# Altium schematic symbol library S7CAS_Lib2017.SchLib: 108 symbols (part 2 of 2)
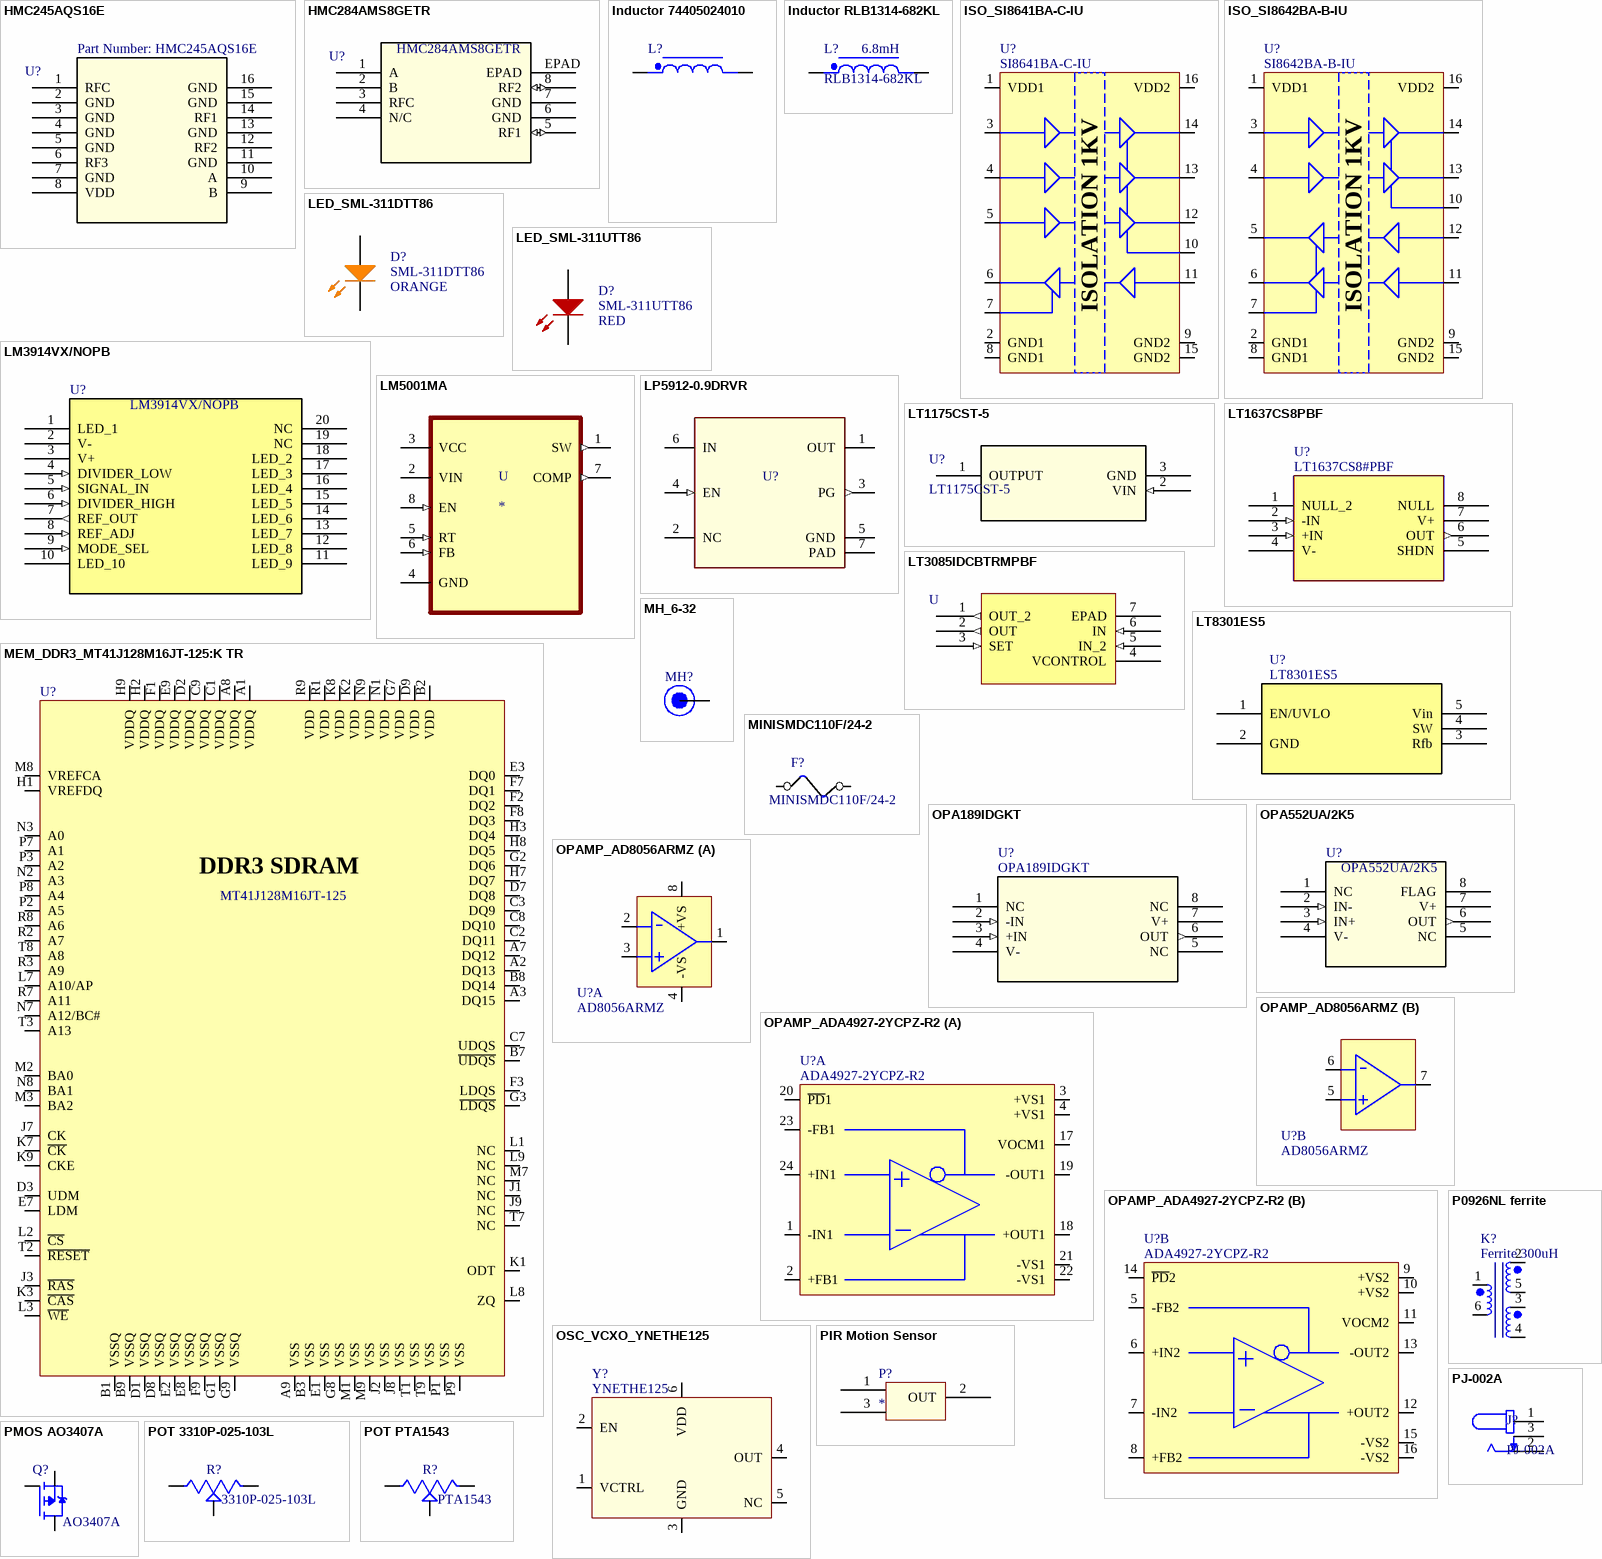
[diagram p6: symbols HMC245AQS16E to POT PTA1543]

## HMC284AMS8GETR
designator U?
RF Switch IC Cellular, ISM, PCS SPDT 3.5GHz 50Ohm 8-MSOPG; Built_By: EMA_UL_Team; Vendor: Analog Devices Inc; SourceLibrary: Analog_2019-03-08; Copyright: Copyright (C) 2018 Accelerated Designs. All rights reserved; Mfg Part Number: HMC284AMS8GETR; RefDes: RefDes; Type: DEV; Value: RF Switch; HelpURL: https://www.analog.com/media/en/technical-documentation/data-sheets/hmc284A.pdf; Supplier Part Number: 1127-1317-2-ND
footprint MSOP8G_8_ADI-M
pins: 1 A, 2 B, 3 RFC, 4 N/C, 5 RF1 (io), 6 GND, 7 GND, 8 RF2 (io), EPAD

## Inductor 74405024010
designator L?
1µH Semi-Shielded Wirewound Inductor 2.35A 58mOhm Max Nonstandard; Published: 8-Jun-2000; LatestRevisionDate: 17-Jul-2002; LatestRevisionNote: Re-released for DXP Platform.; PackageReference: TRF_4; Publisher: Altium Limited; PackageDescription: Transformer; 4 Leads
footprint Fixed ind 1uH (Inductor 1uH non standard)
pins: 1, 2

## Inductor RLB1314-682KL
designator L?, comment RLB1314-682KL  value 6.8mH
6.8mH Unshielded Wirewound Inductor 120mA 9.4Ohm Max Radial, Vertical Cylinder; Published: 8-Jun-2000; LatestRevisionDate: 17-Jul-2002; LatestRevisionNote: Re-released for DXP Platform.; PackageReference: TRF_4; Publisher: Altium Limited; PackageDescription: Transformer; 4 Leads; HelpURL: https://www.bourns.com/docs/Product-Datasheets/rlb.pdf
footprint FIXED IND 6.8MH (2-pin fixed ind)
pins: 1, 2

## ISO_SI8641BA-C-IU
designator U?, comment SI8641BA-C-IU
ISO - DIGITAL ISOLATOR 1KV 4CH 3:1 GEN PURP -  SOP-16; Voltage: 2.5 V ~ 5.5 V; Mfg: Silicon Labs; Current: *; Power: *; Mfg Part Number: SI8641BA-C-IU; HelpURL: http://www.silabs.com/Support%20Documents/TechnicalDocs/si864x-datasheet.pdf; CreatedBy: Jonathan Bouchard; Temperature: -40°C ~ 125°C; Value: *; Precision: *; Package: SOP-16; Supplier 1: Digikey; Supplier Part Number 1: SI8641BA-C-IU-ND
footprint ISO_SI8642BA-B-IU
pins: 1 VDD1 (power), 2 GND1, 3 A1, 4 A2, 5 A3, 6 A4, 7 EN1, 8 GND1, 9 GND2, 10 EN2, 11 B4, 12 B3, 13 B2, 14 B1, 15 GND2, 16 VDD2 (power)
text: ISOLATION 1KV

## ISO_SI8642BA-B-IU
designator U?, comment SI8642BA-B-IU
ISO - DIGITAL ISOLATOR 1KV 4CH 2:2 GEN PURP -  SOP-16; Voltage: 2.5 V ~ 5.5 V; Mfg: Silicon Labs; Current: *; Power: *; Mfg Part Number: SI8642BA-B-IU; HelpURL: http://www.silabs.com/Support%20Documents/TechnicalDocs/si864x-datasheet.pdf; CreatedBy: Jonathan Bouchard; Temperature: -40°C ~ 125°C; Value: *; Precision: *; Package: SOP-16; Supplier 1: Digikey; Supplier Part Number 1: 336-2091-5-ND
footprint ISO_SI8642BA-B-IU
pins: 1 VDD1 (power), 2 GND1, 3 A1, 4 A2, 5 A3, 6 A4, 7 EN1, 8 GND1, 9 GND2, 10 EN2, 11 B4, 12 B3, 13 B2, 14 B1, 15 GND2, 16 VDD2 (power)
text: ISOLATION 1KV

## LED_SML-311DTT86
designator D?, comment SML-311DTT86  value ORANGE
LED - 611nM ORANGE 2mA - 0603; Voltage: 1.8V; Mfg: ROHM Semiconductor; Power: 44mW; Current: 2mA; HelpURL: http://media.digikey.com/pdf/Data%20Sheets/Rohm%20PDFs/SML-311%20Series.pdf; CreatedBy: Jonathan Bouchard; Temperature: -40°C to 85°C; Package: 0603; Precision: *; Mfg Part Number: SML-311DTT86; Supplier 1: Digikey; Supplier Part Number 1: 511-1303-1-ND
footprint LED_0603 (Light Emitting Diode - Package 1608)
pins: A, K

## LED_SML-311UTT86
designator D?, comment SML-311UTT86  value RED
LED - 620nM RED 2mA - 0603; Voltage: 1.8V; Mfg: ROHM Semiconductor; Power: 44mW; Current: 2mA; HelpURL: http://media.digikey.com/pdf/Data%20Sheets/Rohm%20PDFs/SML-311%20Series.pdf; CreatedBy: Jonathan Bouchard; Temperature: -30°C to 85°C; Package: 0603; Precision: *; Mfg Part Number: SML-311UTT86; Supplier 1: Digikey; Supplier Part Number 1: 511-1304-1-ND
footprint LED_0603 (Light Emitting Diode - Package 1608)
pins: A, K

## LM3914VX/NOPB
designator U?
LED, LCD, Vacuum Fluorescent (VF) Driver 20-PLCC (9x9); Vendor: Texas Instruments; Built_By: EMA_UL_Team; SourceLibrary: National_2014-06-20; Value: LED Driver; Manufacturer_Part_Number: LM3914VX/NOPB; Copyright: Copyright (C) 2018 Accelerated Designs. All rights reserved; RefDes: RefDes; Type: DEV; HelpURL: https://www.ti.com/lit/ds/symlink/lm3914.pdf; Supplier Part Number: LM3914VX/NOPBTR-ND; Mfg Part Number: LM3914VX/NOPB
footprint V20A_TEX
pins: 1 LED_1, 2 V- (power), 3 V+ (power), 4 DIVIDER_LOW (in), 5 SIGNAL_IN (in), 6 DIVIDER_HIGH (in), 7 REF_OUT (out), 8 REF_ADJ (in), 9 MODE_SEL (in), 10 LED_10, 11 LED_9, 12 LED_8, 13 LED_7, 14 LED_6, 15 LED_5, 16 LED_4, 17 LED_3, 18 LED_2, 19 NC, 20 NC

## LM5001MA
designator U
3.1-75V Wide Vin, 1A Current Mode Non-Synchronous Switch Mode Regulator 8-SOIC -40 to 125; MP: LM5001MA/NOPB; MF: Texas Instruments; Package: SOIC-8 Texas Instruments; SnapEDA_Link: https://www.snapeda.com/parts/LM5001MA/NOPB/Texas%20Instruments/view-part/29520/?ref=snap; Value: *; Availability: Unavailable; Price: None; HelpURL: https://www.ti.com/lit/ds/symlink/lm5001.pdf?&ts=1589560132089
footprint SOIC127P600X175-8N
pins: 1 SW (out), 2 VIN (power), 3 VCC (power), 4 GND, 5 RT (in), 6 FB (in), 7 COMP (out), 8 EN (in)

## LP5912-0.9DRVR
designator U?
Linear Voltage Regulator IC 1 Output 500mA 6-WSON (2x2); PartNumber: LP5912-1.1DRVR; Manufacturer: Texas Instruments; Mfg Part Number: 296-53182-2-ND; RefDes: RefDes; Type: DEV; Value: Value; Copyright: Copyright (C) 2018 Accelerated Designs. All rights reserved; HelpURL: https://www.ti.com/lit/ds/symlink/lp5912.pdf?&ts=1589554329710
footprint LDO_6-WSON LP5912
pins: 1 OUT (power), 2 NC, 3 PG (out), 4 EN (in), 5 GND (power), 6 IN (power), 7 PAD (power)

## LT1175CST-5
designator U?
Linear Voltage Regulator IC 1 Output 500mA SOT-223-3; Mfg Part Number: LT1175CST-5#PBF; Vendor: Linear Technology; Manufacturer_Part_Number: LT1175CST-5; Copyright: Copyright (C) 2018 Accelerated Designs. All rights reserved; RefDes: RefDes; Type: DEV; Value: Linear Voltage Reg; Supplier Part Number: LT1175CST-5#PBF-ND
footprint SOT-223_ST-M
pins: 1 OUTPUT (power), 2 VIN (in), 3 GND (power)

## LT1637CS8PBF
designator U?, comment LT1637CS8#PBF
General Purpose Amplifier 1 Circuit Rail-to-Rail 8-SO; MF: Linear Technology; SnapEDA_Link: https://www.snapeda.com/parts/LT1637CS8%23PBF/Analog%20Devices/view-part/600819/?ref=snap; Value: *; MP: LT1637CS8#PBF; Package: SO-8 Linear Technology; HelpURL: https://www.analog.com/media/en/technical-documentation/data-sheets/1637fd.pdf
footprint SO-8_S
pins: 1 NULL_2, 2 -IN (in), 3 +IN (in), 4 V- (power), 5 SHDN, 6 OUT (out), 7 V+ (power), 8 NULL

## LT3085IDCBTRMPBF
designator U, comment LT3085IDCB#TRMPBF  (value not drawn)
Linear Voltage Regulator IC 1 Output 500mA 6-DFN _2x3_; MF: Linear Technology; SnapEDA_Link: https://www.snapeda.com/parts/LT3085IDCB%23TRMPBF/Analog%20Devices/view-part/604120/?ref=snap; Digi-Key_Part_Number: LT3085IDCB#TRMPBFCT-ND; Value: Linear Voltage Reg; Digi-Key_Purchase_URL: https://www.digikey.com/product-detail/en/linear-technology-analog-devices/LT3085IDCB-TRMPBF/LT3085IDCB-TRMPBFCT-ND/4729336?utm_source=snapeda&utm_medium=aggregator&utm_campaign=symbol; MP: LT3085IDCB#TRMPBF; Package: DFN-6 Linear Technology; HelpURL: https://www.analog.com/media/en/technical-documentation/data-sheets/3085fb.pdf; Supplier Part Number: LT3085IDCB#TRMPBFTR-ND; Mfg Part Number: LT3085IDCB#TRMPBF
footprint DFN-6_DCB
pins: 1 OUT_2 (out), 2 OUT (out), 3 SET (in), 4 VCONTROL, 5 IN_2 (in), 6 IN (in), 7 EPAD

## LT8301ES5
designator U?
Flyback Switching Regulator IC Positive or Negative, Isolation Capable 1 Output 1.2A SOT-23-5 Thin, TSOT-23-5; Vendor: Linear Technology; Mfg Part Number: LT8301ES5; Copyright: Copyright (C) 2018 Accelerated Designs. All rights reserved; RefDes: RefDes; Type: Type; Value: Flyback Switching Reg; HelpURL: https://www.analog.com/media/en/technical-documentation/data-sheets/LT8301.pdf; Supplier Part Number: LT8301ES5#TRMPBFTR-ND
footprint TSOT-23_S5
pins: 1 EN/UVLO, 2 GND, 3 Rfb, 4 SW, 5 Vin

## MEM_DDR3_MT41J128M16JT-125:K TR
designator U?, comment MT41J128M16JT-125
MEM - DDR3 SDRAM 2GBIT 800MHZ - TFBGA-96; Voltage: 1.425 V ~ 1.575 V; Mfg: Micrel; Current: *; Power: *; Mfg Part Number: http://www.micron.com/~/media/Documents/Products/Data%20Sheet/DRAM/DDR3/2Gb_DDR3_SDRAM.pdf; HelpURL: http://ww1.microchip.com/downloads/en/DeviceDoc/00002275A.pdf; CreatedBy: Jonathan Bouchard; Temperature: 0°C ~ 95°C (TC); Value: *; Precision: *; Package: TFBGA-96; Supplier 1: Digikey; Supplier Part Number 1: 557-1611-1-ND
footprint MEM_DDR3_MT41J128M16JT-125
pins: A1 VDDQ (power), A2 DQ13, A3 DQ15, A7 DQ12, A8 VDDQ (power), A9 VSS, B1 VSSQ, B2 VDD (power), B3 VSS, B7 ~{UDQS}, B8 DQ14, B9 VSSQ, C1 VDDQ (power), C2 DQ11, C3 DQ9, C7 UDQS, C8 DQ10, C9 VDDQ (power), D1 VSSQ, D2 VDDQ (power), D3 UDM (power), D7 DQ8, D8 VSSQ, D9 VDD (power), E1 VSS, E2 VSSQ, E3 DQ0, E7 LDM (power), E8 VSSQ, E9 VDDQ (power), F1 VDDQ (power), F2 DQ2, F3 LDQS, F7 DQ1, F8 DQ3, F9 VSSQ, G1 VSSQ, G2 DQ6, G3 ~{LDQS}, G7 VDD (power), G8 VSS, G9 VSSQ, H1 VREFDQ, H2 VDDQ (power), H3 DQ4, H7 DQ7, H8 DQ5, H9 VDDQ (power), J1 NC, J2 VSS, J3 ~{RAS}, J7 CK, J8 VSS, J9 NC, K1 ODT, K2 VDD (power), K3 ~{CAS}, K7 ~{CK}, K8 VDD (power), K9 CKE, L1 NC, L2 ~{CS}, L3 ~{WE}, L7 A10/AP, L8 ZQ, L9 NC, M1 VSS, M2 BA0, M3 BA2, M7 NC, M8 VREFCA, M9 VSS, N1 VDD (power), N2 A3, N3 A0, N7 A12/BC#, N8 BA1, N9 VDD (power), P1 VSS, P2 A5, P3 A2, P7 A1, P8 A4, P9 VSS, R1 VDD (power), R2 A7, R3 A9, R7 A11, R8 A6, R9 VDD (power), T1 VSS, T2 ~{RESET}, T3 A13, T7 NC, T8 A8, T9 VSS
text: DDR3 SDRAM

## MH_6-32
designator MH?, comment Mounting Hole 6-32  (value not drawn)  (no BOM)
MH - Mounting Hole 6-32; Current: *; Mfg Part Number: *; HelpURL: *; CreatedBy: Jonathan Bouchard; VerifiedBy: Alexandre Imbeault; FootprintNameOK: Jonathan Bouchard; Temperature: *; Power: *; Precision: *; Value: *; Mfg: *; Package: *; Voltage: *
footprint MH_ENG_6-32 (Mounting hole - Imperial 6-32)
pins: 1

## MINISMDC110F/24-2
designator F?
Polymeric PTC Resettable Fuse 24V 1.1A Ih Surface Mount 1812 _4532 Metric_, Concave; MF: Littelfuse Inc.; Value: 1.1A 24V Fuse; SnapEDA_Link: https://www.snapeda.com/parts/MINISMDC110F/24-2/Littelfuse%20Inc./view-part/543701/?ref=snap; MP: MINISMDC110F/24-2; Digi-Key_Part_Number: MINISMDC110F24-2CT-ND; Package: 1812 Littelfuse; DigiKey-Purchase-URL: https://snapeda.com/shop?store=DigiKey&id=543701; HelpURL: https://www.littelfuse.com/~/media/electronics/product_specifications/resettable_ptcs/littelfuse_ptc_minismdc110f_24_2_product_specification.pdf.pdf; Supplier Part Number: MINISMDC110F24-2TR-ND; Mfg Part Number: MINISMDC110F/24-2
footprint FUSE_1812
pins: PS1 1, PS2 2

## OPA189IDGKT
designator U?
IC OPAMP ZERO-DRIFT 1CIRC 8VSSOP; Vendor: Digikey; Mfg: TI; Manufacturer_Part_Number: OPA189IDGKT; Copyright: Copyright (C) 2018 Accelerated Designs. All rights reserved; Type: DEV; Value: OPAMP; Mfg Part Number: OPA189IDGKT; HelpURL: http://www.ti.com/lit/ds/symlink/opa189.pdf?HQS=TI-null-null-digikeymode-df-pf-null-wwe&ts=1589385618642; Created By: Laurent Colas; Package: 8-Pin SOIC; Supplier Part Number: 296-52281-2-ND
footprint DWV8-M
pins: 1 NC (power), 2 -IN (in), 3 +IN (in), 4 V- (power), 5 NC (power), 6 OUT (out), 7 V+ (power), 8 NC (power)

## OPA552UA/2K5
designator U?
General Purpose Amplifier 1 Circuit 8-SOIC; Manufacturer: Texas Instruments; Built_By: EMA_UL_Team; Value: General Purpose OPAMP; Vendor: Texas Instruments; Mfg Part Number: OPA552UA/2K5; Copyright: Copyright (C) 2018 Accelerated Designs. All rights reserved; RefDes: RefDes; Type: DEV; HelpURL: http://www.ti.com/lit/ds/symlink/opa552.pdf?HQS=TI-null-null-digikeymode-df-pf-null-wwe&ts=1590076040641; Supplier Part Number: 296-48161-2-ND
footprint 8-SOIC (OPAMP)
pins: 1 NC (power), 2 IN- (in), 3 IN+ (in), 4 V- (power), 5 NC (power), 6 OUT (out), 7 V+ (power), 8 FLAG

## OPAMP_AD8056ARMZ
designator U?, comment AD8056ARMZ
OPAMP - VFB 300MHZ - 8MSOP; Voltage: 8 V ~ 12 V, ±4 V ~ 6 V; Current: 60mA; Mfg: Analog Devices; Power: *; Mfg Part Number: AD8056ARMZ; HelpURL: http://www.analog.com/media/en/technical-documentation/data-sheets/AD8055_8056.pdf; CreatedBy: Jonathan Bouchard; Temperature: -40°C ~ 125°C; Value: *; Precision: *; Package: MSOP-8; Supplier 1: Digikey; Supplier Part Number 1: AD8056ARMZ-REEL7CT-ND
footprint OPAMP_AD8056ARMZ (SOP, 8-Leads, Body 3x3mm, Pitch 0.65mm, IPC Medium Density)
part A pins: 1 OUT1, 2 -IN1, 3 +IN1, 4 -VS, 8 +VS
part B pins: 5 +IN2, 6 -IN2, 7 OUT2

## OPAMP_ADA4927-2YCPZ-R2
designator U?, comment ADA4927-2YCPZ-R2
OPAMP - CFA 2.3GHZ - QFN-24; Voltage: 4.5 V ~ 11 V, ±2.25 V ~ 5.5 V; Current: 65mA; Mfg: Analog Devices; Power: *; Mfg Part Number: ADA4927-2YCPZ-R2; HelpURL: http://www.analog.com/media/en/technical-documentation/data-sheets/ADA4927-1_4927-2.pdf; CreatedBy: Jonathan Bouchard; Temperature: -40°C ~ 105°C; Value: *; Precision: *; Package: QFN-24; Supplier 1: Digikey; Supplier Part Number 1: ADA4927-2YCPZ-R2CT-ND
footprint OPAMP_ADA4927-2YCPZ-R2 (QFN, 24-Leads, Body 4,00x4,00mm, Pitch 0,50mm, Thermal Pad 2,10x2,10mm, IPC Low Density)
part A pins: 1 -IN1, 2 +FB1, 3 +VS1, 4 +VS1, 17 VOCM1, 18 +OUT1, 19 -OUT1, 20 ~{PD}1, 21 -VS1, 22 -VS1, 23 -FB1, 24 +IN1
part B pins: 5 -FB2, 6 +IN2, 7 -IN2, 8 +FB2, 9 +VS2, 10 +VS2, 11 VOCM2, 12 +OUT2, 13 -OUT2, 14 ~{PD}2, 15 -VS2, 16 -VS2

## OSC_VCXO_YNETHE125
designator Y?, comment YNETHE125
OSC - VCXO 125.000MHZ CMOS - 6-SMD; Voltage: 3.3V; Mfg: Pericom; Current: *; Power: *; Mfg Part Number: YNETHE125; HelpURL: https://www.pericom.com/assets/Datasheets/YNETHE125.pdf; CreatedBy: Jonathan Bouchard; Temperature: -40°C ~ 85°C; Value: *; Precision: *; Package: 6-SMD; Supplier 1: Digikey; Supplier Part Number 1: YNETHE125DKR-ND
footprint OSC_VCXO_YNETHE125
pins: 1 VCTRL, 2 EN, 3 GND, 4 OUT, 5 NC, 6 VDD

## P0926NL ferrite
designator K?, comment value Ferrite 300uH  (hidden comment: P0926NL)
300µH Pulse Transformer 1:1:1 Surface Mount; Current: 1A; Voltage: *; Mfg Part Number: P0926NL; CreatedBy: Laurent Colas; Power: *; Precision: *; Package: 1206; Supplier Part Number: 553-2107-ND
footprint P0926NL-transformer
pins: 1, 2, 3, 4, 5, 6

## PIR Motion Sensor
designator P?
Sensor PIR (Passive Infrared) 197" (5m) 16.4' Polyethylene, White Lens
footprint EKMB1301111K (PIR motion detector)
pins: 1 GND, 2 OUT, 3 VDD

## PJ-002A
designator J?
Power Barrel Connector Jack 2.10mm ID (0.083"), 5.50mm OD (0.217") Through Hole, Right Angle; MF: CUI Devices; Package: None; Price: None; CUI_purchase_URL: https://www.cuidevices.com/product/interconnect/connectors/dc-power-connectors/jacks/pj-002a?utm_source=snapeda.com&utm_medium=referral&utm_campaign=snapedaBOM; SnapEDA_Link: https://www.snapeda.com/parts/PJ-002A/CUI%20Devices/view-part/287588/?ref=snap; Availability: Unavailable; Value: Power Barrel Connector; MP: PJ-002A; HelpURL: https://www.cuidevices.com/product/resource/pj-002a.pdf; Supplier Part Number: CP-002A-ND; Mfg Part Number: PJ-002A
footprint CUI_PJ-002A
pins: 1, 2, 3

## PMOS AO3407A
designator Q?, comment AO3407A
P-Channel 30V 4.3A _Ta_ 1.4W _Ta_ Surface Mount SOT-23-3L; Value: PMOS 30V 4.3A; MF: Alpha & Omega Semiconductor Inc.; SnapEDA_Link: https://www.snapeda.com/parts/AO3407A/Alpha%20%26%20Omega%20Semiconductor%20Inc./view-part/547767/?ref=snap; Price: None; Availability: Available; Package: SOT-23 Alpha &amp; Omega Semiconductor; MP: AO3407A; HelpURL: http://aosmd.com/res/data_sheets/AO3407A.pdf; Supplier Part Number: 785-1006-2-ND; Mfg Part Number: AO3407A
footprint SOT95P280X125-3N
pins: 1 G, 2 S, 3 D

## POT 3310P-025-103L
designator R?, comment 3310P-025-103L
10k Ohm 1 Gang Linear Through Hole Potentiometer None 1 Kierros Conductive Plastic 0.25W, 1/4W PC Pins; Value: POT 10k; MF: Bourns; Digi-Key_Part_Number: 3310P-025-103L-ND; Digi-Key_Purchase_URL: https://www.digikey.com/product-detail/en/bourns-inc/3310P-025-103L/3310P-025-103L-ND/2537831?utm_source=snapeda&utm_medium=aggregator&utm_campaign=symbol; Package: None; SnapEDA_Link: https://www.snapeda.com/parts/3310P-025-103L/Bourns/view-part/587282/?ref=snap; MP: 3310P-025-103L; HelpURL: https://www.bourns.com/docs/Product-Datasheets/3310.pdf; Supplier Part Number: 3310P-025-103L-ND; Mfg Part Number: 3310P-025-103L
footprint POT_3310P-025-103L
pins: 1 CCW, 2 WIPER, 3 CW

## POT PTA1543
designator R?, comment PTA1543
10 kOhms 0.05W, 1/20W Through Hole Slide Potentiometer Top Adjustment Type; Value: POT 10k; MF: Bourns; MP: 3310P-025-103L; Digi-Key_Part_Number: 3310P-025-103L-ND; Digi-Key_Purchase_URL: https://www.digikey.com/product-detail/en/bourns-inc/3310P-025-103L/3310P-025-103L-ND/2537831?utm_source=snapeda&utm_medium=aggregator&utm_campaign=symbol; Package: None; SnapEDA_Link: https://www.snapeda.com/parts/3310P-025-103L/Bourns/view-part/587282/?ref=snap; HelpURL: https://www.bourns.com/docs/Product-Datasheets/3310.pdf; Supplier Part Number: 3310P-025-103L-ND; Mfg Part Number: 3310P-025-103L
footprint POT PTA1543 (potentiometre 20mm)
pins: 1 CCW, 2 WIPER, 3 CW

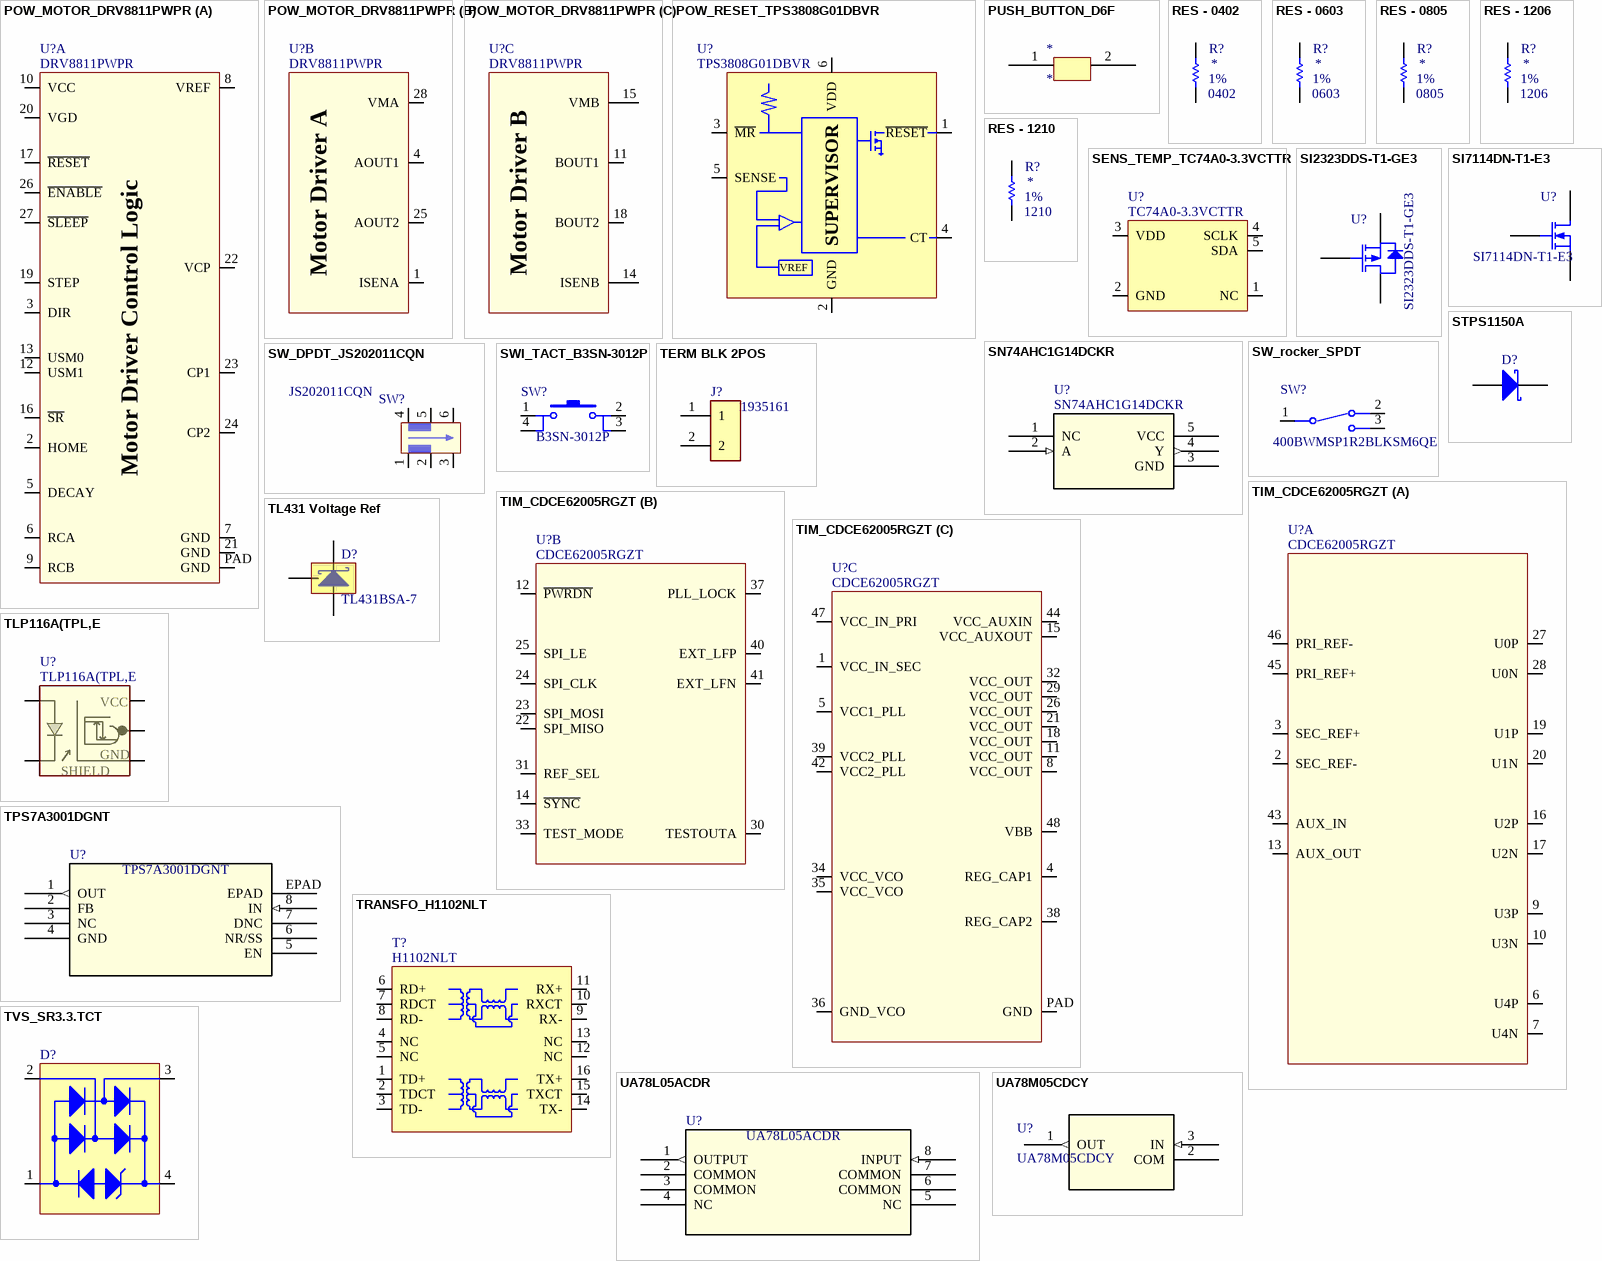
[diagram p5: symbols POW_MOTOR_DRV8811PWPR to UA78M05CDCY]

## POW_MOTOR_DRV8811PWPR
designator U?, comment DRV8811PWPR
POW - STEPPER MOTOR DRIVER - SOP-28; Voltage: 3 V ~ 5.5 V / 8 V ~ 38 V; Mfg: Texas Instrument; Current: *; Power: *; Mfg Part Number: DRV8811PWPR; HelpURL: http://www.ti.com/lit/ds/symlink/drv8811.pdf; CreatedBy: Jonathan Bouchard; Temperature: -40°C ~ 150°C (TJ); Value: *; Precision: *; Package: SOP-28; Supplier 1: Digikey; Supplier Part Number 1: 296-24591-1-ND
footprint POW_MOTOR_DRV8811PWPR (TSOP, 28-Leads, Body 9,70x4,40mm, Pitch 0,65mm, Thermal Pad 9,70x3,40mm, IPC Medium Density)
part A pins: 2 HOME, 3 DIR, 5 DECAY, 6 RCA, 7 GND, 8 VREF, 9 RCB, 10 VCC, 12 USM1, 13 USM0, 16 ~{SR}, 17 ~{RESET}, 19 STEP, 20 VGD, 21 GND, 22 VCP, 23 CP1, 24 CP2, 26 ~{ENABLE}, 27 ~{SLEEP}, PAD GND
part B pins: 1 ISENA, 4 AOUT1, 25 AOUT2, 28 VMA
part C pins: 11 BOUT1, 14 ISENB, 15 VMB, 18 BOUT2
part A text: Motor Driver Control Logic
part B text: Motor Driver A
part C text: Motor Driver B

## POW_RESET_TPS3808G01DBVR
designator U?, comment TPS3808G01DBVR
POW - VOLT SUPERVISOR ADJ - SOT23-6; Mfg: Texas Instruments; Voltage: *; Current: *; Power: *; Mfg Part Number: TPS3808G01DBVR; HelpURL: http://www.ti.com/lit/ds/symlink/tps3808.pdf; CreatedBy: Jonathan Bouchard; Temperature: -40°C ~ 125°C (TJ); Value: *; Precision: *; Package: SOT23-6; Supplier 1: Digikey; Supplier Part Number 1: 296-17188-6-ND
footprint POW_RESET_TPS3808
pins: 1 ~{RESET}, 2 GND, 3 ~{MR}, 4 CT, 5 SENSE, 6 VDD (power)
text: SUPERVISOR; VREF

## PUSH_BUTTON_D6F
designator *
footprint PUSH_BUTTON_D6F (push button d6f)
pins: 1, 2

## RES - 0402
designator R?  Package: 0402  Precision: 1%  (hidden comment: RES - 0402)
Voltage: 50V; Power: 1/16W; Current: *; CreatedBy: Jonathan Bouchard; Value: *
footprint RES_0402
pins: 1, 2

## RES - 0603
designator R?  Package: 0603  Precision: 1%  (hidden comment: RES - 0603)
Current: *; CreatedBy: Jonathan Bouchard; Value: *
footprint RES_0603
pins: 1, 2

## RES - 0805
designator R?  Package: 0805  Precision: 1%  (hidden comment: RES - 0805)
Current: *; CreatedBy: Jonathan Bouchard; Value: *
footprint RES_0805
pins: 1, 2

## RES - 1206
designator R?  Package: 1206  Precision: 1%  (hidden comment: RES - 1206)
Current: *; CreatedBy: Jonathan Bouchard; Value: *
footprint RES_1206
pins: 1, 2

## RES - 1210
designator R?  Package: 1210  Precision: 1%  (hidden comment: RES - 1210)
Power: 1/16W; Current: *; CreatedBy: Jonathan Bouchard; Value: *
footprint RES_1210
pins: 1, 2

## SENS_TEMP_TC74A0-3.3VCTTR
designator U?, comment TC74A0-3.3VCTTR
SENS - TEMPERATURE SENSOR I2C/SMBUS - SOT23-5; Voltage: 2.7 V ~ 5.5 V; Mfg: Microchip; Precision: ±2°C (±3°C); Current: *; Power: *; Mfg Part Number: TC74A0-3.3VCTTR; HelpURL: http://ww1.microchip.com/downloads/en/DeviceDoc/21462D.pdf; CreatedBy: Jonathan Bouchard; Temperature: -40°C ~ 125°C; Value: *; Package: SOT23-5; Supplier 1: Digikey; Supplier Part Number 1: TC74A0-3.3VCTDKR-ND
footprint SEN_TEMP_TC74A0-3.3VCTTR
pins: 1 NC, 2 GND, 3 VDD, 4 SCLK, 5 SDA

## SI2323DDS-T1-GE3
designator U?
P-Channel 20V 5.3A (Tc) 960mW (Ta), 1.7W (Tc) Surface Mount SOT-23; GRAMS Lib Spec: 2.7; HelpURL: https://www.vishay.com/docs/64004/si2323dds.pdf; CreatedBy/Date: Laurent Colas; Package: SOT23-3; Supplier 1: Digikey; Supplier Part Number 1: SI2323DDS-T1-GE3TR-ND; SupplierPartNumber: SI2323DDS-T1-GE3TR-ND
footprint SOT23-3
pins: 1 G, 2 S, 3 D

## SI7114DN-T1-E3
designator U?
N-Channel 30V 11.7A (Ta) 1.5W (Ta) Surface Mount PowerPAK® 1212-8; GRAMS Lib Spec: 2.7; HelpURL: https://www.vishay.com/docs/73039/si7114dn.pdf; CreatedBy/Date: Laurent Colas; Package: PowerPAK 1212-8; Supplier 1: Digikey; Supplier Part Number 1: BSS138LT3GOSTR-ND
footprint PowerPAK 1212-8 Single
pins: D, G, S

## SN74AHC1G14DCKR
designator U?
Inverter IC 1 Channel Schmitt Trigger SC-70-5; Vendor: Texas Instruments; Built_By: EMA_UL_Team; Value: Not Gate; Mfg Part Number: SN74AHC1G14DCKR; Copyright: Copyright (C) 2018 Accelerated Designs. All rights reserved; RefDes: RefDes; Type: DEV; HelpURL: http://www.ti.com/lit/ds/symlink/sn74ahc1g14.pdf?HQS=TI-null-null-digikeymode-df-pf-null-wwe&ts=1590510775011; Supplier Part Number: 296-8748-2-ND
footprint DCK5-M
pins: 1 NC, 2 A (in), 3 GND (power), 4 Y (out), 5 VCC (power)

## STPS1150A
designator D?
Diode Schottky 150V 1A Surface Mount SMA; Mfg Part Number: STPS1150A; Published: 21-Mar-2003; LatestRevisionDate: 29-May-2009; LatestRevisionNote: IPC-7351 Footprint Added.; DatasheetVersion: Oct-1999; PackageVersion: Sep-2001; PackageReference: SMA; Publisher: Altium Limited; PackageDescription: SMA; ComponentLink1Description: Manufacturer Link; ComponentLink1URL: http://www.infineon.com/; ComponentLink2Description: Datasheet; ComponentLink2URL: http://www.infineon.com/upload/Document/cmc_upload/documents/009/363/bat17series.pdf; HelpURL: https://www.st.com/content/ccc/resource/technical/document/datasheet/c8/2f/54/15/4c/14/44/bb/CD00003321.pdf/files/CD00003321.pdf/jcr:content/translations/en.CD00003321.pdf; Value: Diode Schottky; Supplier Part Number: 497-7545-2-ND
footprint SMA-M
pins: 1, 2

## SW_DPDT_JS202011CQN
designator SW?, comment JS202011CQN
Slide Switch DPDT Through Hole; Current: 4A; Mfg: CK-switch; Voltage: 24V; Mfg Part Number: JS202011CQN; HelpURL: https://www.ckswitches.com/media/1422/js.pdf; CreatedBy: Laurent Colas; Temperature: -25°C ~ 70°C; Power: *; Precision: *; Package: 6-TH; Value: *; Supplier 1: Digikey; Supplier Part Number 1: 401-2001-ND
footprint DPDT-JS202011CQN (Switch)
pins: 1, 2, 3, 4, 5, 6

## SW_rocker_SPDT
designator SW?, comment 400BWMSP1R2BLKSM6QE
Rocker Switch SPDT 3A (AC/DC) 120V Surface Mount, Right Angle; Current: 4A; Mfg: E-Switch; Value: SPDT Rocker Switch; Voltage: 24V; Mfg Part Number: 400BWMSP1R2BLKSM6QE; HelpURL: https://sten-eswitch-13110800-production.s3.amazonaws.com/system/asset/product_line/data_sheet/73/400B-1.pdf; CreatedBy: Laurent Colas; Temperature: -25°C ~ 70°C; Power: *; Precision: *; Package: 4-SMD; Supplier 1: Digikey; Supplier Part Number: EG4336TR-ND
footprint SW_400BWMSP1R2BLKSM6QE
pins: 1, 2, 3

## SWI_TACT_B3SN-3012P
designator SW?, comment B3SN-3012P
SWI - TACT SPST-NO 0.05A 24V - 4-SMD; Current: 50mA; Mfg: Omron; Mfg Part Number: B3SN-3012P; HelpURL: http://www.omron.com/ecb/products/pdf/en-b3sn.pdf; CreatedBy: Jonathan Bouchard; Temperature: -25°C ~ 70°C; Power: *; Precision: *; Package: 4-SMD; Value: *; Voltage: 24V; Supplier 1: Digikey; Supplier Part Number 1: SW261CT-ND
footprint SWI_TACT_B3SN-3012P
pins: 1, 2, 3, 4

## TERM BLK 2POS
designator J?, comment 1935161
2 Position Wire to Board Terminal Block Horizontal with Board 0.197 _5.00mm_ Through Hole; MF: Phoenix Contact; Value: Term bloc 2pos; SnapEDA_Link: https://www.snapeda.com/parts/1935161/Phoenix%20Contact/view-part/423515/?ref=snap; MP: 1935161; Digi-Key_Purchase_URL: https://www.digikey.ca/product-detail/en/phoenix-contact/1935161/277-1667-ND/568614?utm_source=snapeda&utm_medium=aggregator&utm_campaign=symbol; Digi-Key_Part_Number: 277-1667-ND; Package: None; HelpURL: https://media.digikey.com/pdf/Data%20Sheets/Phoenix%20Contact%20PDFs/1935161.pdf; Supplier Part Number: 277-1667-ND; Mfg Part Number: 1935161
footprint PHOENIX_1935161
pins: 1, 2

## TIM_CDCE62005RGZT
designator U?, comment CDCE62005RGZT
TIM - CLK SYNTH JITTER CLEANER 3:5 - QFN-48; Voltage: 3 V ~ 3.6 V; Mfg: Texas Instruments; Current: *; Power: *; Mfg Part Number: CDCE62005RGZT; HelpURL: http://www.ti.com/lit/ds/symlink/cdce62005.pdf; CreatedBy: Jonathan Bouchard; Temperature: -40°C ~ 85°C; Value: *; Precision: *; Package: QFN-48; Supplier 1: Digikey; Supplier Part Number 1: 296-23947-1-ND
footprint TIM_CDCE62005RGZT (QFN, 64-Leads, Body 9,00x9,00mm, Pitch 0,50mm, Thermal Pad 7,40x7,40mm, IPC Medium Density)
part A pins: 2 SEC_REF-, 3 SEC_REF+, 6 U4P, 7 U4N, 9 U3P, 10 U3N, 13 AUX_OUT, 16 U2P, 17 U2N, 19 U1P, 20 U1N, 27 U0P, 28 U0N, 43 AUX_IN, 45 PRI_REF+, 46 PRI_REF-
part B pins: 12 ~{PWRDN}, 14 ~{SYNC}, 22 SPI_MISO, 23 SPI_MOSI, 24 SPI_CLK, 25 SPI_LE, 30 TESTOUTA, 31 REF_SEL, 33 TEST_MODE, 37 PLL_LOCK, 40 EXT_LFP, 41 EXT_LFN
part C pins: 1 VCC_IN_SEC, 4 REG_CAP1, 5 VCC1_PLL, 8 VCC_OUT, 11 VCC_OUT, 15 VCC_AUXOUT, 18 VCC_OUT, 21 VCC_OUT, 26 VCC_OUT, 29 VCC_OUT, 32 VCC_OUT, 34 VCC_VCO, 35 VCC_VCO, 36 GND_VCO, 38 REG_CAP2, 39 VCC2_PLL, 42 VCC2_PLL, 44 VCC_AUXIN, 47 VCC_IN_PRI, 48 VBB, PAD GND

## TL431 Voltage Ref
designator D?, comment TL431BSA-7
Shunt Voltage Reference IC 36V ±0.5% SOT-23-3; Note: Pin 2 is not connected and not drawn.; Published: 21-Mar-2003; LatestRevisionDate: 29-May-2009; LatestRevisionNote: IPC-7351 Footprint Added.; DatasheetVersion: Oct-1999; PackageVersion: Sep-2001; PackageReference: SOT-23; Publisher: Altium Limited; PackageDescription: 3-Pin SOT-23 Package 0.95 mm Pitch, 2.5 mm Lead Span; ComponentLink1Description: Manufacturer Link; ComponentLink1URL: http://www.infineon.com/; ComponentLink2Description: Datasheet; ComponentLink2URL: http://www.infineon.com/upload/Document/cmc_upload/documents/009/363/bat17series.pdf; HelpURL: https://www.diodes.com/assets/Datasheets/TL431_432.pdf; Supplier Part Number: TL431BSA-7DITR-ND; Mfg Part Number: TL431BSA-7; Value: Shunt Voltage Ref
footprint SOT23-3
pins: 1, 2, 3

## TLP116A(TPL,E
designator U?
OPTOISO 3.75KV PUSH PULL SO6-5; Vendor: Toshiba; Built_By: EMA_UL_Team; SourceLibrary: Toshiba_2019-12-10; Number_devices_in_Package: 1; Mfg Part Number: TLP116A(TPL,E; Copyright: Copyright (C) 2018 Accelerated Designs. All rights reserved; RefDes: RefDes; Type: DEV; Value: Opto ISO; Source_Package: TLP116A; HelpURL: https://media.digikey.com/pdf/Data%20Sheets/Toshiba%20PDFs/TLP116A.pdf; Supplier Part Number: TLP116A(TPLETR-ND
footprint 6-SOIC - 5
pins: 1, 3, 4, 5, 6
text: VCC; GND; SHIELD

## TPS7A3001DGNT
designator U?
Linear Voltage Regulator IC 1 Output 200mA 8-MSOP-PowerPad; Vendor: Texas Instruments; Built_By: EMA_UL_Team; SourceLibrary: TI_2014-06-19; Mfg Part Number: TPS7A3001DGNT; Manufacturer: Texas Instruments; Copyright: Copyright (C) 2018 Accelerated Designs. All rights reserved; RefDes: RefDes; Type: Type; Value: Linear Voltage Regulator; HelpURL: http://www.ti.com/lit/ds/symlink/tps7a30.pdf?HQS=TI-null-null-digikeymode-df-pf-null-wwe&ts=1589996086987; Supplier Part Number: 296-27744-2-ND
footprint DGN8_1P89X1P57-M
pins: 1 OUT (out), 2 FB, 3 NC, 4 GND (power), 5 EN, 6 NR/SS, 7 DNC, 8 IN (in), EPAD

## TRANSFO_H1102NLT
designator T?, comment H1102NLT
TRANSFO - ETHERNET 10/100B-TX - SMD-16; Mfg: Pulse Eng.; Value: 1:1 (350uH); Voltage: *; Current: *; Power: *; Mfg Part Number: H1102NLT; HelpURL: http://media.digikey.com/pdf/Data%20Sheets/Pulse%20PDFs/10_100BASE-T%20Single%20Port%20SMD%20Magnetics_Rev2008.pdf; CreatedBy: Jonathan Bouchard; Temperature: -40°C to 85°C; Precision: *; Package: SMD-16; Supplier 1: Digikey; Supplier Part Number 1: 553-1532-1-ND
footprint TRANSFO_H1102NLT
pins: 1 TD+, 2 TDCT, 3 TD-, 4 NC, 5 NC, 6 RD+, 7 RDCT, 8 RD-, 9 RX-, 10 RXCT, 11 RX+, 12 NC, 13 NC, 14 TX-, 15 TXCT, 16 TX+

## TVS_SR3.3.TCT
designator D?, comment SR3.3.TCT  (value not drawn)
TVS - DIODE ARRAY 3.3V 150W - SOT143-4; Mfg: Semtech; Voltage: VBR=3.3V; Current: *; Mfg Part Number: SR3.3.TCT; HelpURL: http://www.semtech.com/images/datasheet/sr3.3.pdf; CreatedBy: Jonathan Bouchard; Temperature: -55°C to 125°C; Power: 150W; Package: SOT143-4; Precision: *; Value: *; Supplier 1: Digikey; Supplier Part Number 1: SR3.3DKR-ND
footprint TVS_SR3.3.TCT (SOT143, 4-Leads, Body 3,0x2,6mm (max), Pitch 1,92mm, IPC Medium Density)
pins: 1 I/O, 2 VN, 3, 4

## UA78L05ACDR
designator U?
Linear Voltage Regulator IC 1 Output 100mA 8-SOIC; Vendor: Texas Instruments; Built_By: EMA_UL_Team; Mfg Part Number: UA78L05ACDR; Copyright: Copyright (C) 2018 Accelerated Designs. All rights reserved; RefDes: RefDes; Type: DEV; Value: Linear Voltage Regulator; HelpURL: http://www.ti.com/lit/ds/symlink/ua78l.pdf?HQS=TI-null-null-digikeymode-df-pf-null-wwe&ts=1591200235553; Supplier Part Number: 296-1364-2-ND
footprint D8
pins: 1 OUTPUT (out), 2 COMMON (power), 3 COMMON (power), 4 NC, 5 NC, 6 COMMON (power), 7 COMMON (power), 8 INPUT (in)

## UA78M05CDCY
designator U?
Linear Voltage Regulator IC 1 Output 500mA SOT-223-4; Vendor: Texas Instruments; Built_By: EMA_UL_Team; Mfg Part Number: UA78M05CDCY; Copyright: Copyright (C) 2018 Accelerated Designs. All rights reserved; RefDes: RefDes; Type: DEV; Value: Linear Voltage Regulator; HelpURL: http://www.ti.com/lit/ds/symlink/ua78m.pdf?HQS=TI-null-null-digikeymode-df-pf-null-wwe&ts=1589916594914; Supplier Part Number: 296-27138-5-ND
footprint DCY4-M
pins: 1 OUT (out), 2 COM (power), 3 IN (in)